# Altium schematic symbol library SCH - MECHANICAL - RIGHT ANGLE MOUNTING BRACKET.SCHLIB: 1 symbol
Pins are listed as number, name and electrical type; pins without a type are passive.

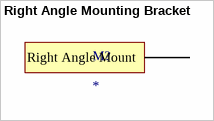
[diagram p0: symbol Right Angle Mounting Bracket]

## Right Angle Mounting Bracket
designator M?
pins: 1 Right Angle Mount